# Altium footprint library 4.00mm2x10.PcbLib: 4 footprints
Each footprint in its own frame and in the unit in brackets; x right, y up, seen from the top. Pads: shape width x height; smd on the part's side, far side on the other; paste and mask are expansions set on the pad; w line width, h text height; cw(c..) or ccw(c..) is an arc to the next point about the centre after c.
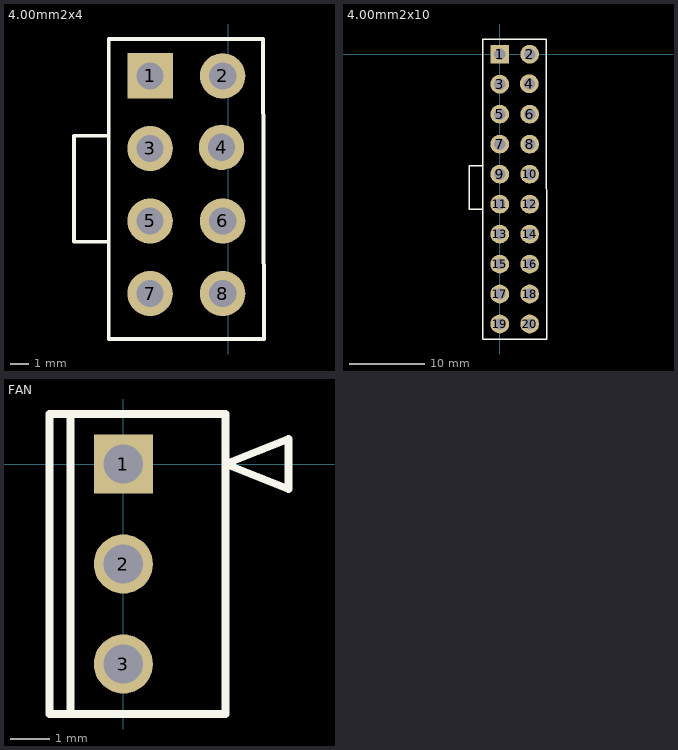
[diagram p0: the footprints below, top view; thin cyan lines are the x and y axes]

## 4.00mm2x4 [mm]
pads (8):
  rect 2.5x2.5 hole 1.5: 1(-4.318,29.21)
  round 2.5 hole 1.5: 2(-0.318,29.21) 3(-4.318,25.21) 4(-0.381,25.273) 5(-4.318,21.21) 6(-0.318,21.21) 7(-4.318,17.21) 8(-0.318,17.21)
Top Overlay:
  lines w0.2: -6.731,20.066 -8.509,20.066 -8.509,25.908 -6.731,25.908 ; -6.604,31.242 -6.594,14.705 1.958,14.705 1.905,31.242 -6.604,31.242

## 4.00mm2x10 [mm]
pads (20):
  rect 2.5x2.5 hole 1.5: 1(0,0)
  round 2.5 hole 1.5: 2(4,0) 3(0,-4) 4(3.937,-3.937) 5(0,-8) 6(4,-8) 7(0,-12) 8(4,-12) 9(0,-16) 10(4,-16) 11(0,-20) 12(4,-20) 13(0,-24) 14(4,-24) 15(0,-28) 16(4,-28) 17(0,-32) 18(4,-32) 19(0,-36) 20(4,-36)
Top Overlay:
  lines w0.2: -2.286,-20.701 -4.064,-20.701 -4.064,-14.859 -2.286,-14.859 ; -2.286,2.032 6.223,2.032 6.276,-38 -2.276,-38 -2.286,2.032

## FAN [mm]
pads (3):
  rect 1.5x1.5 hole 1: 1(0,0)
  round 1.5 hole 1: 2(0,-2.54) 3(0,-5.08)
Top Overlay:
  lines w0.2: -1.344,-6.35 -1.344,1.27 ; -1.871,-6.35 2.593,-6.35 2.593,1.27 -1.871,1.27 -1.871,-6.35 ; 2.593,0 4.191,0.635 4.191,-0.635 2.593,0

## PCBComponent_1 [mm]